# EAGLE library part VSK-S25-5U (library SHC)
VSK-S25-5U: SWITCHING POWER SUPPLY DigiKey Part Num: 102-2411-ND
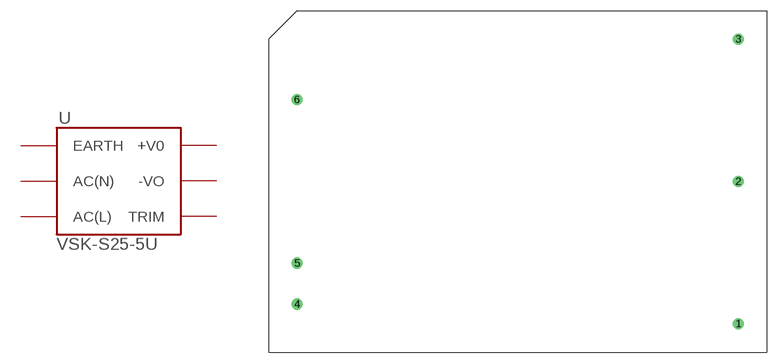
[diagram p39: symbol with the pads of VSK-S25-5U; footprint VSK-S25-5U]

Designator prefix -

## VSK-S25-5U  [VSK-S25-5U]
1  EARTH
2  AC(N)
3  AC(L)
4  TRIM
5  -VO
6  +V0

## Footprint VSK-S25-5U (pad centres in mm)
drill 1.05: 1 31,-20; 2 31,0; 3 31,20; 4 -31,-17.25; 5 -31,-11.5; 6 -31,11.5